# EAGLE library part ACS750*CA-050 (library allegro)
Current Sensor display layer 49 Reference in BRD and place VIAs on circles Source: www.allegromicro.com/datafile/0750-050.pdf
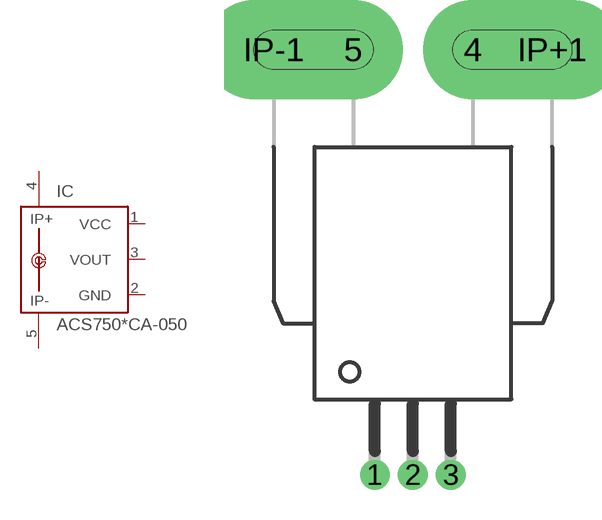
[diagram p0: symbol with the pads of ACS75050; footprint ACS75050]

Designator prefix IC

## ACS750LCA-050, ACS750SCA-050  [ACS75050]
1  VCC  pwr
2  GND  pwr
3  VOUT  out
4  IP+  pas
5  IP-  pas
IP+1  IP+1  in
IP-1  IP-1  in

## Footprint ACS75050 (pad centres in mm)
Current Sensor In BRD, display layer 49 Reference and place VIAs with drill = 0,5mm on circles In DRC, set Clearance same signals PAD to VIA = 0 Source: www.allegromicro.com/datafile/0750-050.pdf
drill 0.8 pad 1.5 round: 1 -1.91,-21.4; 2 0,-21.4; 3 1.91,-21.4
drill 2 pad 5 offset: 4 3,0; 5 -3,0
drill 2 pad 4 offset: IP+1 7,0; IP-1 -7,0